# Altium footprint library SOD882.pcblib: 1 footprints
Each footprint in its own frame and in the unit in brackets; x right, y up, seen from the top. Pads: shape width x height; smd on the part's side, far side on the other; paste and mask are expansions set on the pad; w line width, h text height; cw(c..) or ccw(c..) is an arc to the next point about the centre after c.
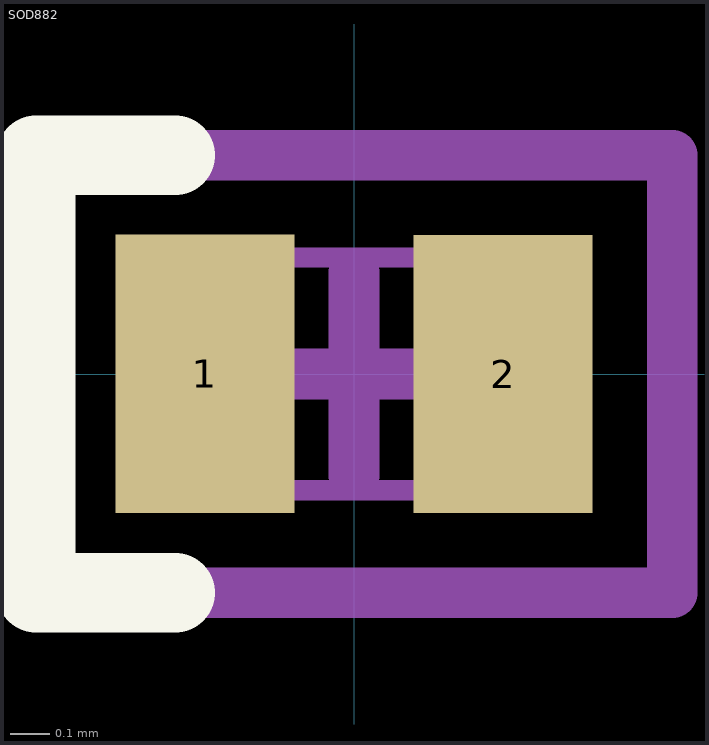
[diagram p0: the footprint, top view; thin cyan lines are the x and y axes]

## SOD882 [mm] "SOD882"
pads (2):
  rect 0.45x0.7 smd: 1(-0.375,0) 2(0.375,0)
Top Overlay:
  lines w0.2: -0.45,-0.55 -0.8,-0.55 -0.8,0.55 -0.45,0.55
Mechanical 2:
  lines w0.051: -0.492,-0.292 -0.492,0.293 0.492,0.293 0.492,-0.292 -0.492,-0.292
Mechanical 4:
  lines w0.127: -0.254,0 0.254,0 ; 0,-0.254 0,0.254 ; -0.8,-0.55 -0.8,0.55 0.8,0.55 0.8,-0.55 -0.8,-0.55
3D body "User Library-SOD882-1.step": height -0.04, standoff -0.55, extent -0.5,-0.292 0.485,0.293